# Altium schematic symbol library 0533980667.SchLib: 1 symbol
Pins are listed as number, name and electrical type; pins without a type are passive.

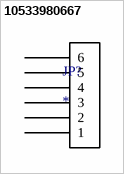
[diagram p0: symbol 10533980667]

## 10533980667
designator JP?
PartNumber: 0533980667; Manufacturer: Molex; Supplier 1: Digi-Key; Supplier Part Number 1: WM12334CT-ND
footprint 0533980667
pins: 1, 2, 3, 4, 5, 6